# Altium footprint library 2-1445050-3.PcbLib: 1 footprints
Each footprint in its own frame and in the unit in brackets; x right, y up, seen from the top. Pads: shape width x height; smd on the part's side, far side on the other; paste and mask are expansions set on the pad; w line width, h text height; cw(c..) or ccw(c..) is an arc to the next point about the centre after c.
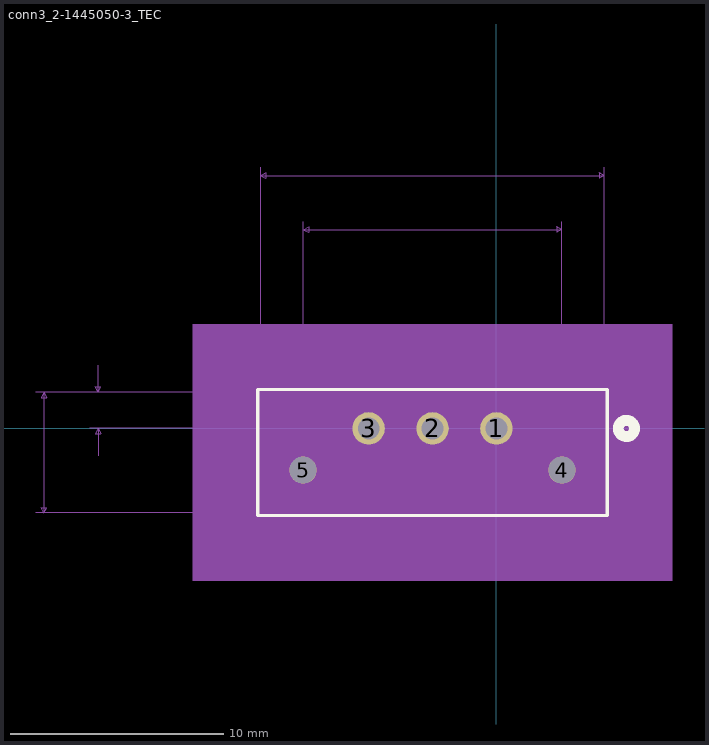
[diagram p0: the footprint, top view; thin cyan lines are the x and y axes]

## conn3_2-1445050-3_TEC [mil]
pads (5):
  round 60 hole 40 mask+0: 1(0,0) 2(-118,0) 3(-236,0)
  round 50 hole 50: 4(121,-77) 5(-357,-77)
Top Overlay:
  circle w20: c240,0 r15
  lines w6: -440.5,-161 204.5,-161 204.5,72 -440.5,72 -440.5,-161
Bottom Overlay:
  circle w20: c240,0 r15
Mechanical 5:
  region: -560.5,192 324.5,192 324.5,-281 -560.5,-281
Mechanical 7:
  lines w1: -850.5,-156 -435.5,-156 ; -850.5,67 -435.5,67 ; -750.5,0 -118,0 ; -750.5,67 -435.5,67 ; -735.5,-50 -735.5,0 ; -735.5,117 -735.5,67 ; -550.5,-77 121,-77 121,382 ; -550.5,0 -118,0 ; -535.5,-127 -535.5,-77 ; -535.5,50 -535.5,0 ; -435.5,482 -435.5,67 ; -357,-77 -357,382 ; -286,167 -236,167 ; -236,182 -236,0 ; -118,182 -118,0 ; -68,167 -118,167 ; 199.5,67 199.5,482 ; 299.5,-50 299.5,0 ; 299.5,50 299.5,0 ; -835.5,-156 -835.5,67 ; -835.5,-156 -840.5,-146 -830.5,-146 -835.5,-156 ; -835.5,67 -840.5,57 -830.5,57 -835.5,67 ; -735.5,0 -740.5,-10 -730.5,-10 -735.5,0 ; -735.5,67 -740.5,77 -730.5,77 -735.5,67 ; -535.5,-77 -540.5,-87 -530.5,-87 -535.5,-77 ; -535.5,0 -540.5,10 -530.5,10 -535.5,0 ; -435.5,467 199.5,467 ; -435.5,467 -425.5,472 -425.5,462 -435.5,467 ; -357,367 121,367 ; -357,367 -347,372 -347,362 -357,367 ; -236,0 314.5,0 -236,0 ; -236,167 -246,172 -246,162 -236,167 ; -118,167 -108,172 -108,162 -118,167 ; 121,367 111,372 111,362 121,367 ; 199.5,467 189.5,472 189.5,462 199.5,467 ; 299.5,0 294.5,10 304.5,10 299.5,0 ; 299.5,0 294.5,-10 304.5,-10 299.5,0
  text "Default Padstyle: EX60Y60D40P" at -480.5,-306 h50
  text "1st Mtg Padstyle: E50D50NP" at -443,-381 h50
  text "2nd Mtg Padstyle: EX70Y70D70P" at -480.5,-456 h50
  text "3rd Mtg Padstyle: EX70Y70D70P" at -480.5,-531 h50
  text "Left Mtg Padstyle: EX60Y60D30P" at -493,-606 h50
  text "Right Mtg Padstyle: EX60Y60D30P" at -505.5,-681 h50
  text "Alt Padstyle 1: OX60Y90D30P" at -455.5,-756 h50
  text "Alt Padstyle 2: OX90Y60D30P" at -455.5,-831 h50
  text "0.118in/2.997mm" at -329.75,187 h25
  text "0.478in/12.141mm" at -218,387 h25
  text "0.635in/16.129mm" at -218,487 h25
  text "0in/0mm" at 319.5,-12.5 h25
  text "-0.077in/-1.956mm" at -768,-51 h25
  text "0.067in/1.702mm" at -943,21 h25
  text "0.223in/5.664mm" at -1043,21 h25
Mechanical 13:
  circle w20: c0,110 r15
  lines w1: -435.5,-156 199.5,-156 199.5,67 -435.5,67 -435.5,-156
Mechanical 15:
  region: 209.5,77 -445.5,77 -445.5,-166 209.5,-166
  region: 199.5,67 -435.5,67 -435.5,-156 199.5,-156
  lines w6: -445.5,-166 -445.5,77 209.5,77 209.5,-166 -445.5,-166
3D body: height 10, standoff 0, extent 0,0 10,10